# EAGLE library part ADUM1251 (library di_ic)
Analog Devices - Hot Swappable, Dual I2C Isolators. 2500Vrms, 1000kHz, 3.0-5.0V supply/logic levels. http://www.analog.com/static/imported-files/data_sheets/ADUM1250_1251.pdf
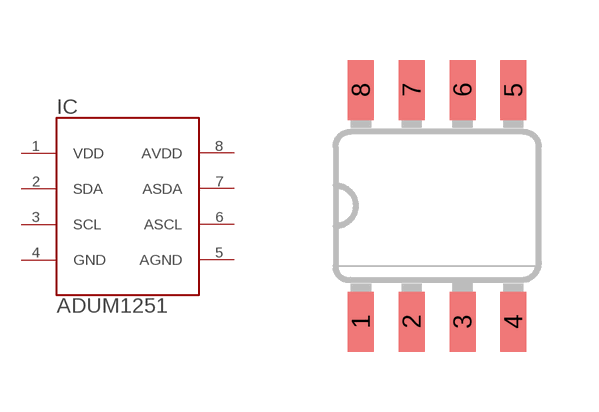
[diagram p55: symbol with the pads of SO08N; footprint SO08N]

Designator prefix IC

## ADUM1251  [SO08N]
1  VDD  pwr
2  SDA
3  SCL
4  GND  pwr
5  AGND  pwr
6  ASCL
7  ASDA
8  AVDD  pwr

## Footprint SO08N (pad centres in mm)
smd 0.65 x 1.5: 1 -1.905,-2.9; 2 -0.635,-2.9; 3 0.635,-2.9; 4 1.905,-2.9; 5 1.905,2.9; 6 0.635,2.9; 7 -0.635,2.9; 8 -1.905,2.9